# EAGLE library part SRAM512KX8 (library ArdDisp)
SRAM 512kBx8 5V AS7C4096A-xxTxx Alliance Semiconductor pozdro TSOP2-44 rozteč 0,8mm Mouser 913-AS7C4096A-12TCN 4,8$ velka SRAM na 5V (na Digi nemaji zadnou 5V 512kBx8) Jara 2.8.2012
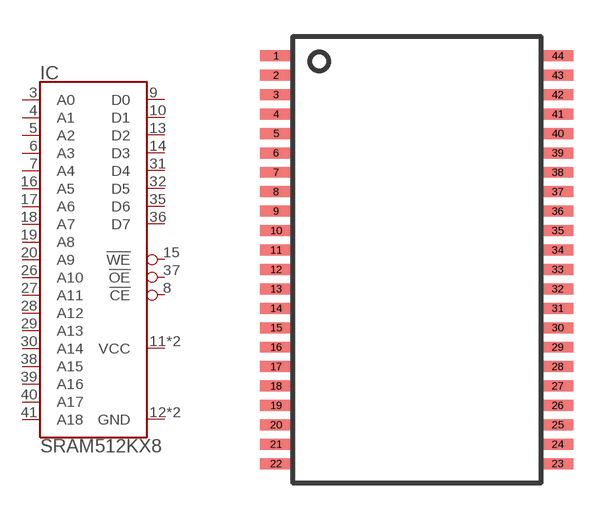
[diagram p9: symbol with the pads of TSOP2-44; footprint TSOP2-44]

Designator prefix IC

## SRAM512KX8  [TSOP2-44]
3  A0  in
4  A1  in
5  A2  in
6  A3  in
7  A4  in
8  !CE  in
9  D0  hiz
10  D1  hiz
11  VCC  in
12  GND  in
13  D2  hiz
14  D3  hiz
15  !WE  in
16  A5  in
17  A6  in
18  A7  in
19  A8  in
20  A9  in
26  A10  in
27  A11  in
28  A12  in
29  A13  in
30  A14  in
31  D4  hiz
32  D5  hiz
33  VCC  in
34  GND  in
35  D6  hiz
36  D7  hiz
37  !OE  in
38  A15  in
39  A16  in
40  A17  in
41  A18  in

## Footprint TSOP2-44 (pad centres in mm)
Pady jsou v mm/0,1 Jara 2.8.2012 podle DSH SRAM ASC4096A pad 0,45x1,3 (kdyz licha desetina tak lze pěkne tahat 0,3mm v gridu 0,1) ploska nozky je 0,4x0,6 pad je navic o 0,15mm dovnitr a 0,55 vne 0,5mm ven je minimum aby se dalo rozumne rucne opravovat
smd 1.3 x 0.45: 1 -5.8,8.4; 2 -5.8,7.6; 3 -5.8,6.8; 4 -5.8,6; 5 -5.8,5.2; 6 -5.8,4.4; 7 -5.8,3.6; 8 -5.8,2.8; 9 -5.8,2; 10 -5.8,1.2; 11 -5.8,0.4; 12 -5.8,-0.4; 13 -5.8,-1.2; 14 -5.8,-2; 15 -5.8,-2.8; 16 -5.8,-3.6; 17 -5.8,-4.4; 18 -5.8,-5.2; 19 -5.8,-6; 20 -5.8,-6.8; 21 -5.8,-7.6; 22 -5.8,-8.4; 23 5.8,-8.4; 24 5.8,-7.6; 25 5.8,-6.8; 26 5.8,-6; 27 5.8,-5.2; 28 5.8,-4.4; 29 5.8,-3.6; 30 5.8,-2.8; 31 5.8,-2; 32 5.8,-1.2; 33 5.8,-0.4; 34 5.8,0.4; 35 5.8,1.2; 36 5.8,2; 37 5.8,2.8; 38 5.8,3.6; 39 5.8,4.4; 40 5.8,5.2; 41 5.8,6; 42 5.8,6.8; 43 5.8,7.6; 44 5.8,8.4